# Altium footprint library BGA_Sq_127P.PcbLib: 89 footprints (part 3 of 20)
Each footprint in its own frame and in the unit in brackets; x right, y up, seen from the top. Pads: shape width x height; smd on the part's side, far side on the other; paste and mask are expansions set on the pad; w line width, h text height; cw(c..) or ccw(c..) is an arc to the next point about the centre after c.
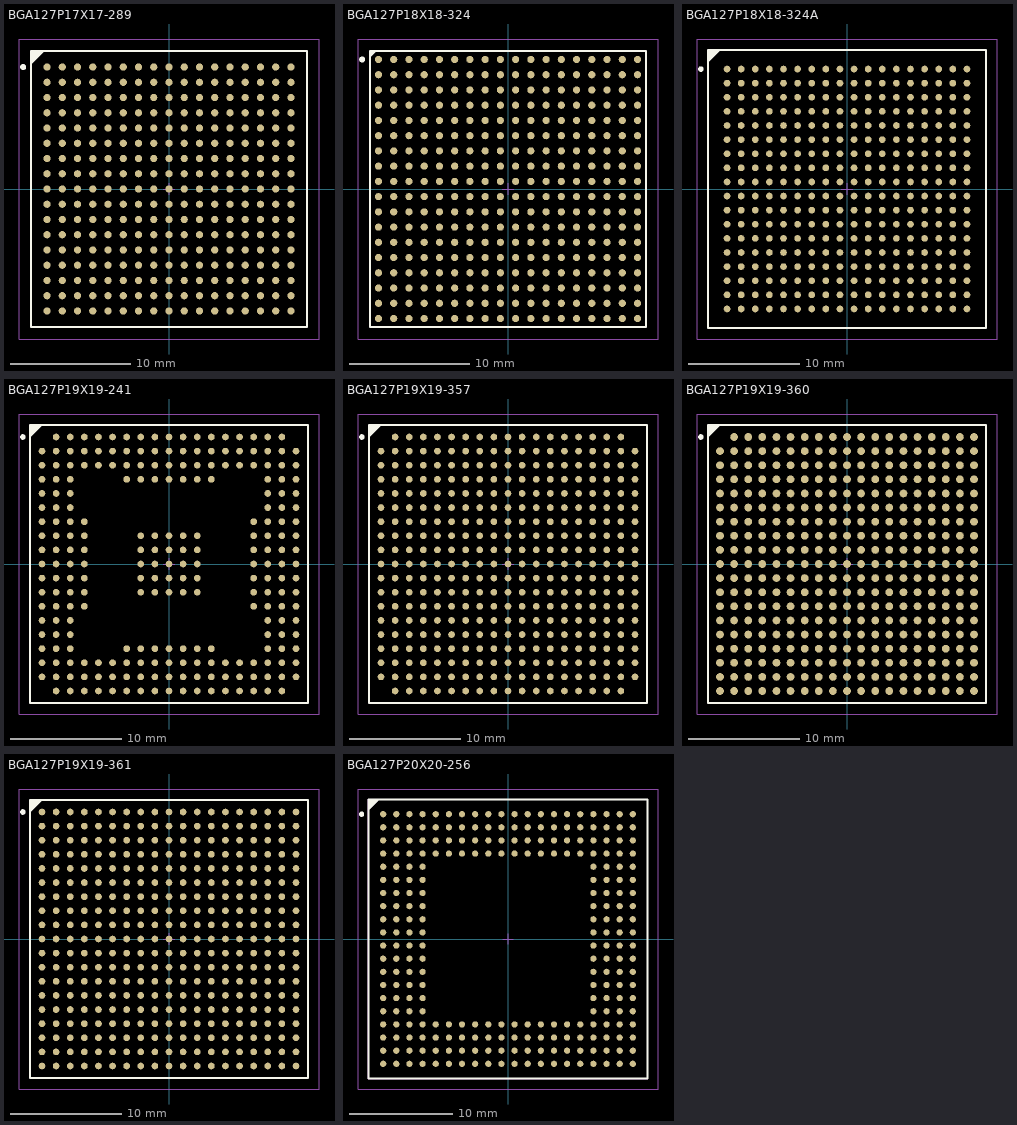
[diagram p2: the footprints below, top view; thin cyan lines are the x and y axes]

## BGA127P17X17-289 [mm] "BGA, 289-Leads, Body 23x23mm, Pitch 1.27mm"
height 3.5
pads (289):
  round 0.6 smd: A1(-10.16,10.16) A2(-8.89,10.16) A3(-7.62,10.16) A4(-6.35,10.16) A5(-5.08,10.16) A6(-3.81,10.16) A7(-2.54,10.16) A8(-1.27,10.16) A9(0,10.16) A10(1.27,10.16) A11(2.54,10.16) A12(3.81,10.16) A13(5.08,10.16) A14(6.35,10.16) A15(7.62,10.16) A16(8.89,10.16) A17(10.16,10.16) B1(-10.16,8.89) B2(-8.89,8.89) B3(-7.62,8.89) B4(-6.35,8.89) B5(-5.08,8.89) B6(-3.81,8.89) B7(-2.54,8.89) B8(-1.27,8.89) B9(0,8.89) B10(1.27,8.89) B11(2.54,8.89) B12(3.81,8.89) B13(5.08,8.89) B14(6.35,8.89) B15(7.62,8.89) B16(8.89,8.89) B17(10.16,8.89) C1(-10.16,7.62) C2(-8.89,7.62) C3(-7.62,7.62) C4(-6.35,7.62) C5(-5.08,7.62) C6(-3.81,7.62) C7(-2.54,7.62) C8(-1.27,7.62) C9(0,7.62) C10(1.27,7.62) C11(2.54,7.62) C12(3.81,7.62) C13(5.08,7.62) C14(6.35,7.62) C15(7.62,7.62) C16(8.89,7.62) C17(10.16,7.62) D1(-10.16,6.35) D2(-8.89,6.35) D3(-7.62,6.35) D4(-6.35,6.35) D5(-5.08,6.35) D6(-3.81,6.35) D7(-2.54,6.35) D8(-1.27,6.35) D9(0,6.35) D10(1.27,6.35) D11(2.54,6.35) D12(3.81,6.35) D13(5.08,6.35) D14(6.35,6.35) D15(7.62,6.35) D16(8.89,6.35) D17(10.16,6.35) E1(-10.16,5.08) E2(-8.89,5.08) E3(-7.62,5.08) E4(-6.35,5.08) E5(-5.08,5.08) E6(-3.81,5.08) E7(-2.54,5.08) E8(-1.27,5.08) E9(0,5.08) E10(1.27,5.08) E11(2.54,5.08) E12(3.81,5.08) E13(5.08,5.08) E14(6.35,5.08) E15(7.62,5.08) E16(8.89,5.08) E17(10.16,5.08) F1(-10.16,3.81) F2(-8.89,3.81) F3(-7.62,3.81) F4(-6.35,3.81) F5(-5.08,3.81) F6(-3.81,3.81) F7(-2.54,3.81) F8(-1.27,3.81) F9(0,3.81) F10(1.27,3.81) F11(2.54,3.81) F12(3.81,3.81) F13(5.08,3.81) F14(6.35,3.81) F15(7.62,3.81) F16(8.89,3.81) F17(10.16,3.81) G1(-10.16,2.54) G2(-8.89,2.54) G3(-7.62,2.54) G4(-6.35,2.54) G5(-5.08,2.54) G6(-3.81,2.54) G7(-2.54,2.54) G8(-1.27,2.54) G9(0,2.54) G10(1.27,2.54) G11(2.54,2.54) G12(3.81,2.54) G13(5.08,2.54) G14(6.35,2.54) G15(7.62,2.54) G16(8.89,2.54) G17(10.16,2.54) H1(-10.16,1.27) H2(-8.89,1.27) H3(-7.62,1.27) H4(-6.35,1.27) H5(-5.08,1.27) H6(-3.81,1.27) H7(-2.54,1.27) H8(-1.27,1.27) H9(0,1.27) H10(1.27,1.27) H11(2.54,1.27) H12(3.81,1.27) H13(5.08,1.27) H14(6.35,1.27) H15(7.62,1.27) H16(8.89,1.27) H17(10.16,1.27) J1(-10.16,0) J2(-8.89,0) J3(-7.62,0) J4(-6.35,0) J5(-5.08,0) J6(-3.81,0) J7(-2.54,0) J8(-1.27,0) J9(0,0) J10(1.27,0) J11(2.54,0) J12(3.81,0) J13(5.08,0) J14(6.35,0) J15(7.62,0) J16(8.89,0) J17(10.16,0) K1(-10.16,-1.27) K2(-8.89,-1.27) K3(-7.62,-1.27) K4(-6.35,-1.27) K5(-5.08,-1.27) K6(-3.81,-1.27) K7(-2.54,-1.27) K8(-1.27,-1.27) K9(0,-1.27) K10(1.27,-1.27) K11(2.54,-1.27) K12(3.81,-1.27) K13(5.08,-1.27) K14(6.35,-1.27) K15(7.62,-1.27) K16(8.89,-1.27) K17(10.16,-1.27) L1(-10.16,-2.54) L2(-8.89,-2.54) L3(-7.62,-2.54) L4(-6.35,-2.54) L5(-5.08,-2.54) L6(-3.81,-2.54) L7(-2.54,-2.54) L8(-1.27,-2.54) L9(0,-2.54) L10(1.27,-2.54) L11(2.54,-2.54) L12(3.81,-2.54) L13(5.08,-2.54) L14(6.35,-2.54) L15(7.62,-2.54) L16(8.89,-2.54) L17(10.16,-2.54) M1(-10.16,-3.81) M2(-8.89,-3.81) M3(-7.62,-3.81) M4(-6.35,-3.81) M5(-5.08,-3.81) M6(-3.81,-3.81) M7(-2.54,-3.81) M8(-1.27,-3.81) M9(0,-3.81) M10(1.27,-3.81) M11(2.54,-3.81) M12(3.81,-3.81) M13(5.08,-3.81) M14(6.35,-3.81) M15(7.62,-3.81) M16(8.89,-3.81) M17(10.16,-3.81) N1(-10.16,-5.08) N2(-8.89,-5.08) N3(-7.62,-5.08) N4(-6.35,-5.08) N5(-5.08,-5.08) N6(-3.81,-5.08) N7(-2.54,-5.08) N8(-1.27,-5.08) N9(0,-5.08) N10(1.27,-5.08) N11(2.54,-5.08) N12(3.81,-5.08) N13(5.08,-5.08) N14(6.35,-5.08) N15(7.62,-5.08) N16(8.89,-5.08) N17(10.16,-5.08) P1(-10.16,-6.35) P2(-8.89,-6.35) P3(-7.62,-6.35) P4(-6.35,-6.35) P5(-5.08,-6.35) P6(-3.81,-6.35) P7(-2.54,-6.35) P8(-1.27,-6.35) P9(0,-6.35) P10(1.27,-6.35) P11(2.54,-6.35) P12(3.81,-6.35) P13(5.08,-6.35) P14(6.35,-6.35) P15(7.62,-6.35) P16(8.89,-6.35) P17(10.16,-6.35) R1(-10.16,-7.62) R2(-8.89,-7.62) R3(-7.62,-7.62) R4(-6.35,-7.62) R5(-5.08,-7.62) R6(-3.81,-7.62) R7(-2.54,-7.62) R8(-1.27,-7.62) R9(0,-7.62) R10(1.27,-7.62) R11(2.54,-7.62) R12(3.81,-7.62) R13(5.08,-7.62) R14(6.35,-7.62) R15(7.62,-7.62) R16(8.89,-7.62) R17(10.16,-7.62) T1(-10.16,-8.89) T2(-8.89,-8.89) T3(-7.62,-8.89) T4(-6.35,-8.89) T5(-5.08,-8.89) T6(-3.81,-8.89) T7(-2.54,-8.89) T8(-1.27,-8.89) T9(0,-8.89) T10(1.27,-8.89) T11(2.54,-8.89) T12(3.81,-8.89) T13(5.08,-8.89) T14(6.35,-8.89) T15(7.62,-8.89) T16(8.89,-8.89) T17(10.16,-8.89) U1(-10.16,-10.16) U2(-8.89,-10.16) U3(-7.62,-10.16) U4(-6.35,-10.16) U5(-5.08,-10.16) U6(-3.81,-10.16) U7(-2.54,-10.16) U8(-1.27,-10.16) U9(0,-10.16) U10(1.27,-10.16) U11(2.54,-10.16) U12(3.81,-10.16) U13(5.08,-10.16) U14(6.35,-10.16) U15(7.62,-10.16) U16(8.89,-10.16) U17(10.16,-10.16)
Top Overlay:
  circle w0.25: c-12.15,10.16 r0.125
  region: -10.5,11.5 -11.5,10.5 -11.5,11.5
  lines w0.2: -11.5,10.5 -10.5,11.5 ; -11.5,-11.5 -11.5,11.5 11.5,11.5 11.5,-11.5 -11.5,-11.5
Mechanical 13:
  lines w0.1: -11.5,-11.5 -11.5,11.5 11.5,11.5 11.5,-11.5 -11.5,-11.5
Mechanical 15:
  lines w0.1: -0.5,0 0.5,0 ; 0,-0.5 0,0.5 ; -12.5,-12.5 -12.5,12.5 12.5,12.5 12.5,-12.5 -12.5,-12.5
3D body: height 3.5, standoff 0, extent -11.5,-11.5 11.5,11.5

## BGA127P18X18-324 [mm] "BGA, 324-Leads, Body 23x23mm, Pitch 1.27mm"
height 3.5
pads (324):
  round 0.6 smd: A1(-10.795,10.795) A2(-9.525,10.795) A3(-8.255,10.795) A4(-6.985,10.795) A5(-5.715,10.795) A6(-4.445,10.795) A7(-3.175,10.795) A8(-1.905,10.795) A9(-0.635,10.795) A10(0.635,10.795) A11(1.905,10.795) A12(3.175,10.795) A13(4.445,10.795) A14(5.715,10.795) A15(6.985,10.795) A16(8.255,10.795) A17(9.525,10.795) A18(10.795,10.795) B1(-10.795,9.525) B2(-9.525,9.525) B3(-8.255,9.525) B4(-6.985,9.525) B5(-5.715,9.525) B6(-4.445,9.525) B7(-3.175,9.525) B8(-1.905,9.525) B9(-0.635,9.525) B10(0.635,9.525) B11(1.905,9.525) B12(3.175,9.525) B13(4.445,9.525) B14(5.715,9.525) B15(6.985,9.525) B16(8.255,9.525) B17(9.525,9.525) B18(10.795,9.525) C1(-10.795,8.255) C2(-9.525,8.255) C3(-8.255,8.255) C4(-6.985,8.255) C5(-5.715,8.255) C6(-4.445,8.255) C7(-3.175,8.255) C8(-1.905,8.255) C9(-0.635,8.255) C10(0.635,8.255) C11(1.905,8.255) C12(3.175,8.255) C13(4.445,8.255) C14(5.715,8.255) C15(6.985,8.255) C16(8.255,8.255) C17(9.525,8.255) C18(10.795,8.255) D1(-10.795,6.985) D2(-9.525,6.985) D3(-8.255,6.985) D4(-6.985,6.985) D5(-5.715,6.985) D6(-4.445,6.985) D7(-3.175,6.985) D8(-1.905,6.985) D9(-0.635,6.985) D10(0.635,6.985) D11(1.905,6.985) D12(3.175,6.985) D13(4.445,6.985) D14(5.715,6.985) D15(6.985,6.985) D16(8.255,6.985) D17(9.525,6.985) D18(10.795,6.985) E1(-10.795,5.715) E2(-9.525,5.715) E3(-8.255,5.715) E4(-6.985,5.715) E5(-5.715,5.715) E6(-4.445,5.715) E7(-3.175,5.715) E8(-1.905,5.715) E9(-0.635,5.715) E10(0.635,5.715) E11(1.905,5.715) E12(3.175,5.715) E13(4.445,5.715) E14(5.715,5.715) E15(6.985,5.715) E16(8.255,5.715) E17(9.525,5.715) E18(10.795,5.715) F1(-10.795,4.445) F2(-9.525,4.445) F3(-8.255,4.445) F4(-6.985,4.445) F5(-5.715,4.445) F6(-4.445,4.445) F7(-3.175,4.445) F8(-1.905,4.445) F9(-0.635,4.445) F10(0.635,4.445) F11(1.905,4.445) F12(3.175,4.445) F13(4.445,4.445) F14(5.715,4.445) F15(6.985,4.445) F16(8.255,4.445) F17(9.525,4.445) F18(10.795,4.445) G1(-10.795,3.175) G2(-9.525,3.175) G3(-8.255,3.175) G4(-6.985,3.175) G5(-5.715,3.175) G6(-4.445,3.175) G7(-3.175,3.175) G8(-1.905,3.175) G9(-0.635,3.175) G10(0.635,3.175) G11(1.905,3.175) G12(3.175,3.175) G13(4.445,3.175) G14(5.715,3.175) G15(6.985,3.175) G16(8.255,3.175) G17(9.525,3.175) G18(10.795,3.175) H1(-10.795,1.905) H2(-9.525,1.905) H3(-8.255,1.905) H4(-6.985,1.905) H5(-5.715,1.905) H6(-4.445,1.905) H7(-3.175,1.905) H8(-1.905,1.905) H9(-0.635,1.905) H10(0.635,1.905) H11(1.905,1.905) H12(3.175,1.905) H13(4.445,1.905) H14(5.715,1.905) H15(6.985,1.905) H16(8.255,1.905) H17(9.525,1.905) H18(10.795,1.905) J1(-10.795,0.635) J2(-9.525,0.635) J3(-8.255,0.635) J4(-6.985,0.635) J5(-5.715,0.635) J6(-4.445,0.635) J7(-3.175,0.635) J8(-1.905,0.635) J9(-0.635,0.635) J10(0.635,0.635) J11(1.905,0.635) J12(3.175,0.635) J13(4.445,0.635) J14(5.715,0.635) J15(6.985,0.635) J16(8.255,0.635) J17(9.525,0.635) J18(10.795,0.635) K1(-10.795,-0.635) K2(-9.525,-0.635) K3(-8.255,-0.635) K4(-6.985,-0.635) K5(-5.715,-0.635) K6(-4.445,-0.635) K7(-3.175,-0.635) K8(-1.905,-0.635) K9(-0.635,-0.635) K10(0.635,-0.635) K11(1.905,-0.635) K12(3.175,-0.635) K13(4.445,-0.635) K14(5.715,-0.635) K15(6.985,-0.635) K16(8.255,-0.635) K17(9.525,-0.635) K18(10.795,-0.635) L1(-10.795,-1.905) L2(-9.525,-1.905) L3(-8.255,-1.905) L4(-6.985,-1.905) L5(-5.715,-1.905) L6(-4.445,-1.905) L7(-3.175,-1.905) L8(-1.905,-1.905) L9(-0.635,-1.905) L10(0.635,-1.905) L11(1.905,-1.905) L12(3.175,-1.905) L13(4.445,-1.905) L14(5.715,-1.905) L15(6.985,-1.905) L16(8.255,-1.905) L17(9.525,-1.905) L18(10.795,-1.905) M1(-10.795,-3.175) M2(-9.525,-3.175) M3(-8.255,-3.175) M4(-6.985,-3.175) M5(-5.715,-3.175) M6(-4.445,-3.175) M7(-3.175,-3.175) M8(-1.905,-3.175) M9(-0.635,-3.175) M10(0.635,-3.175) M11(1.905,-3.175) M12(3.175,-3.175) M13(4.445,-3.175) M14(5.715,-3.175) M15(6.985,-3.175) M16(8.255,-3.175) M17(9.525,-3.175) M18(10.795,-3.175) N1(-10.795,-4.445) N2(-9.525,-4.445) N3(-8.255,-4.445) N4(-6.985,-4.445) N5(-5.715,-4.445) N6(-4.445,-4.445) N7(-3.175,-4.445) N8(-1.905,-4.445) N9(-0.635,-4.445) N10(0.635,-4.445) N11(1.905,-4.445) N12(3.175,-4.445) N13(4.445,-4.445) N14(5.715,-4.445) N15(6.985,-4.445) N16(8.255,-4.445) N17(9.525,-4.445) N18(10.795,-4.445) P1(-10.795,-5.715) P2(-9.525,-5.715) P3(-8.255,-5.715) P4(-6.985,-5.715) P5(-5.715,-5.715) P6(-4.445,-5.715) P7(-3.175,-5.715) P8(-1.905,-5.715) P9(-0.635,-5.715) P10(0.635,-5.715) P11(1.905,-5.715) P12(3.175,-5.715) P13(4.445,-5.715) P14(5.715,-5.715) P15(6.985,-5.715) P16(8.255,-5.715) P17(9.525,-5.715) P18(10.795,-5.715) R1(-10.795,-6.985) R2(-9.525,-6.985) R3(-8.255,-6.985) R4(-6.985,-6.985) R5(-5.715,-6.985) R6(-4.445,-6.985) R7(-3.175,-6.985) R8(-1.905,-6.985) R9(-0.635,-6.985) R10(0.635,-6.985) R11(1.905,-6.985) R12(3.175,-6.985) R13(4.445,-6.985) R14(5.715,-6.985) R15(6.985,-6.985) R16(8.255,-6.985) R17(9.525,-6.985) R18(10.795,-6.985) T1(-10.795,-8.255) T2(-9.525,-8.255) T3(-8.255,-8.255) T4(-6.985,-8.255) T5(-5.715,-8.255) T6(-4.445,-8.255) T7(-3.175,-8.255) T8(-1.905,-8.255) T9(-0.635,-8.255) T10(0.635,-8.255) T11(1.905,-8.255) T12(3.175,-8.255) T13(4.445,-8.255) T14(5.715,-8.255) T15(6.985,-8.255) T16(8.255,-8.255) T17(9.525,-8.255) T18(10.795,-8.255) U1(-10.795,-9.525) U2(-9.525,-9.525) U3(-8.255,-9.525) U4(-6.985,-9.525) U5(-5.715,-9.525) U6(-4.445,-9.525) U7(-3.175,-9.525) U8(-1.905,-9.525) U9(-0.635,-9.525) U10(0.635,-9.525) U11(1.905,-9.525) U12(3.175,-9.525) U13(4.445,-9.525) U14(5.715,-9.525) U15(6.985,-9.525) U16(8.255,-9.525) U17(9.525,-9.525) U18(10.795,-9.525) V1(-10.795,-10.795) V2(-9.525,-10.795) V3(-8.255,-10.795) V4(-6.985,-10.795) V5(-5.715,-10.795) V6(-4.445,-10.795) V7(-3.175,-10.795) V8(-1.905,-10.795) V9(-0.635,-10.795) V10(0.635,-10.795) V11(1.905,-10.795) V12(3.175,-10.795) V13(4.445,-10.795) V14(5.715,-10.795) V15(6.985,-10.795) V16(8.255,-10.795) V17(9.525,-10.795) V18(10.795,-10.795)
Top Overlay:
  circle w0.25: c-12.15,10.795 r0.125
  region: -11.08,11.5 -11.5,11.08 -11.5,11.5
  lines w0.2: -11.5,11.08 -11.08,11.5 ; -11.5,-11.5 -11.5,11.5 11.5,11.5 11.5,-11.5 -11.5,-11.5
Mechanical 13:
  lines w0.1: -11.5,-11.5 -11.5,11.5 11.5,11.5 11.5,-11.5 -11.5,-11.5
Mechanical 15:
  lines w0.1: -0.5,0 0.5,0 ; 0,-0.5 0,0.5 ; -12.5,-12.5 -12.5,12.5 12.5,12.5 12.5,-12.5 -12.5,-12.5
3D body: height 3.5, standoff 0, extent -11.5,-11.5 11.5,11.5

## BGA127P18X18-324A [mm] "BGA, 324-Leads, Body 25x25mm, Pitch 1.27mm"
height 3.5
pads (324):
  round 0.6 smd: A1(-10.795,10.795) A2(-9.525,10.795) A3(-8.255,10.795) A4(-6.985,10.795) A5(-5.715,10.795) A6(-4.445,10.795) A7(-3.175,10.795) A8(-1.905,10.795) A9(-0.635,10.795) A10(0.635,10.795) A11(1.905,10.795) A12(3.175,10.795) A13(4.445,10.795) A14(5.715,10.795) A15(6.985,10.795) A16(8.255,10.795) A17(9.525,10.795) A18(10.795,10.795) B1(-10.795,9.525) B2(-9.525,9.525) B3(-8.255,9.525) B4(-6.985,9.525) B5(-5.715,9.525) B6(-4.445,9.525) B7(-3.175,9.525) B8(-1.905,9.525) B9(-0.635,9.525) B10(0.635,9.525) B11(1.905,9.525) B12(3.175,9.525) B13(4.445,9.525) B14(5.715,9.525) B15(6.985,9.525) B16(8.255,9.525) B17(9.525,9.525) B18(10.795,9.525) C1(-10.795,8.255) C2(-9.525,8.255) C3(-8.255,8.255) C4(-6.985,8.255) C5(-5.715,8.255) C6(-4.445,8.255) C7(-3.175,8.255) C8(-1.905,8.255) C9(-0.635,8.255) C10(0.635,8.255) C11(1.905,8.255) C12(3.175,8.255) C13(4.445,8.255) C14(5.715,8.255) C15(6.985,8.255) C16(8.255,8.255) C17(9.525,8.255) C18(10.795,8.255) D1(-10.795,6.985) D2(-9.525,6.985) D3(-8.255,6.985) D4(-6.985,6.985) D5(-5.715,6.985) D6(-4.445,6.985) D7(-3.175,6.985) D8(-1.905,6.985) D9(-0.635,6.985) D10(0.635,6.985) D11(1.905,6.985) D12(3.175,6.985) D13(4.445,6.985) D14(5.715,6.985) D15(6.985,6.985) D16(8.255,6.985) D17(9.525,6.985) D18(10.795,6.985) E1(-10.795,5.715) E2(-9.525,5.715) E3(-8.255,5.715) E4(-6.985,5.715) E5(-5.715,5.715) E6(-4.445,5.715) E7(-3.175,5.715) E8(-1.905,5.715) E9(-0.635,5.715) E10(0.635,5.715) E11(1.905,5.715) E12(3.175,5.715) E13(4.445,5.715) E14(5.715,5.715) E15(6.985,5.715) E16(8.255,5.715) E17(9.525,5.715) E18(10.795,5.715) F1(-10.795,4.445) F2(-9.525,4.445) F3(-8.255,4.445) F4(-6.985,4.445) F5(-5.715,4.445) F6(-4.445,4.445) F7(-3.175,4.445) F8(-1.905,4.445) F9(-0.635,4.445) F10(0.635,4.445) F11(1.905,4.445) F12(3.175,4.445) F13(4.445,4.445) F14(5.715,4.445) F15(6.985,4.445) F16(8.255,4.445) F17(9.525,4.445) F18(10.795,4.445) G1(-10.795,3.175) G2(-9.525,3.175) G3(-8.255,3.175) G4(-6.985,3.175) G5(-5.715,3.175) G6(-4.445,3.175) G7(-3.175,3.175) G8(-1.905,3.175) G9(-0.635,3.175) G10(0.635,3.175) G11(1.905,3.175) G12(3.175,3.175) G13(4.445,3.175) G14(5.715,3.175) G15(6.985,3.175) G16(8.255,3.175) G17(9.525,3.175) G18(10.795,3.175) H1(-10.795,1.905) H2(-9.525,1.905) H3(-8.255,1.905) H4(-6.985,1.905) H5(-5.715,1.905) H6(-4.445,1.905) H7(-3.175,1.905) H8(-1.905,1.905) H9(-0.635,1.905) H10(0.635,1.905) H11(1.905,1.905) H12(3.175,1.905) H13(4.445,1.905) H14(5.715,1.905) H15(6.985,1.905) H16(8.255,1.905) H17(9.525,1.905) H18(10.795,1.905) J1(-10.795,0.635) J2(-9.525,0.635) J3(-8.255,0.635) J4(-6.985,0.635) J5(-5.715,0.635) J6(-4.445,0.635) J7(-3.175,0.635) J8(-1.905,0.635) J9(-0.635,0.635) J10(0.635,0.635) J11(1.905,0.635) J12(3.175,0.635) J13(4.445,0.635) J14(5.715,0.635) J15(6.985,0.635) J16(8.255,0.635) J17(9.525,0.635) J18(10.795,0.635) K1(-10.795,-0.635) K2(-9.525,-0.635) K3(-8.255,-0.635) K4(-6.985,-0.635) K5(-5.715,-0.635) K6(-4.445,-0.635) K7(-3.175,-0.635) K8(-1.905,-0.635) K9(-0.635,-0.635) K10(0.635,-0.635) K11(1.905,-0.635) K12(3.175,-0.635) K13(4.445,-0.635) K14(5.715,-0.635) K15(6.985,-0.635) K16(8.255,-0.635) K17(9.525,-0.635) K18(10.795,-0.635) L1(-10.795,-1.905) L2(-9.525,-1.905) L3(-8.255,-1.905) L4(-6.985,-1.905) L5(-5.715,-1.905) L6(-4.445,-1.905) L7(-3.175,-1.905) L8(-1.905,-1.905) L9(-0.635,-1.905) L10(0.635,-1.905) L11(1.905,-1.905) L12(3.175,-1.905) L13(4.445,-1.905) L14(5.715,-1.905) L15(6.985,-1.905) L16(8.255,-1.905) L17(9.525,-1.905) L18(10.795,-1.905) M1(-10.795,-3.175) M2(-9.525,-3.175) M3(-8.255,-3.175) M4(-6.985,-3.175) M5(-5.715,-3.175) M6(-4.445,-3.175) M7(-3.175,-3.175) M8(-1.905,-3.175) M9(-0.635,-3.175) M10(0.635,-3.175) M11(1.905,-3.175) M12(3.175,-3.175) M13(4.445,-3.175) M14(5.715,-3.175) M15(6.985,-3.175) M16(8.255,-3.175) M17(9.525,-3.175) M18(10.795,-3.175) N1(-10.795,-4.445) N2(-9.525,-4.445) N3(-8.255,-4.445) N4(-6.985,-4.445) N5(-5.715,-4.445) N6(-4.445,-4.445) N7(-3.175,-4.445) N8(-1.905,-4.445) N9(-0.635,-4.445) N10(0.635,-4.445) N11(1.905,-4.445) N12(3.175,-4.445) N13(4.445,-4.445) N14(5.715,-4.445) N15(6.985,-4.445) N16(8.255,-4.445) N17(9.525,-4.445) N18(10.795,-4.445) P1(-10.795,-5.715) P2(-9.525,-5.715) P3(-8.255,-5.715) P4(-6.985,-5.715) P5(-5.715,-5.715) P6(-4.445,-5.715) P7(-3.175,-5.715) P8(-1.905,-5.715) P9(-0.635,-5.715) P10(0.635,-5.715) P11(1.905,-5.715) P12(3.175,-5.715) P13(4.445,-5.715) P14(5.715,-5.715) P15(6.985,-5.715) P16(8.255,-5.715) P17(9.525,-5.715) P18(10.795,-5.715) R1(-10.795,-6.985) R2(-9.525,-6.985) R3(-8.255,-6.985) R4(-6.985,-6.985) R5(-5.715,-6.985) R6(-4.445,-6.985) R7(-3.175,-6.985) R8(-1.905,-6.985) R9(-0.635,-6.985) R10(0.635,-6.985) R11(1.905,-6.985) R12(3.175,-6.985) R13(4.445,-6.985) R14(5.715,-6.985) R15(6.985,-6.985) R16(8.255,-6.985) R17(9.525,-6.985) R18(10.795,-6.985) T1(-10.795,-8.255) T2(-9.525,-8.255) T3(-8.255,-8.255) T4(-6.985,-8.255) T5(-5.715,-8.255) T6(-4.445,-8.255) T7(-3.175,-8.255) T8(-1.905,-8.255) T9(-0.635,-8.255) T10(0.635,-8.255) T11(1.905,-8.255) T12(3.175,-8.255) T13(4.445,-8.255) T14(5.715,-8.255) T15(6.985,-8.255) T16(8.255,-8.255) T17(9.525,-8.255) T18(10.795,-8.255) U1(-10.795,-9.525) U2(-9.525,-9.525) U3(-8.255,-9.525) U4(-6.985,-9.525) U5(-5.715,-9.525) U6(-4.445,-9.525) U7(-3.175,-9.525) U8(-1.905,-9.525) U9(-0.635,-9.525) U10(0.635,-9.525) U11(1.905,-9.525) U12(3.175,-9.525) U13(4.445,-9.525) U14(5.715,-9.525) U15(6.985,-9.525) U16(8.255,-9.525) U17(9.525,-9.525) U18(10.795,-9.525) V1(-10.795,-10.795) V2(-9.525,-10.795) V3(-8.255,-10.795) V4(-6.985,-10.795) V5(-5.715,-10.795) V6(-4.445,-10.795) V7(-3.175,-10.795) V8(-1.905,-10.795) V9(-0.635,-10.795) V10(0.635,-10.795) V11(1.905,-10.795) V12(3.175,-10.795) V13(4.445,-10.795) V14(5.715,-10.795) V15(6.985,-10.795) V16(8.255,-10.795) V17(9.525,-10.795) V18(10.795,-10.795)
Top Overlay:
  circle w0.25: c-13.15,10.795 r0.125
  region: -11.5,12.5 -12.5,11.5 -12.5,12.5
  lines w0.2: -12.5,11.5 -11.5,12.5 ; -12.5,-12.5 -12.5,12.5 12.5,12.5 12.5,-12.5 -12.5,-12.5
Mechanical 13:
  lines w0.1: -12.5,-12.5 -12.5,12.5 12.5,12.5 12.5,-12.5 -12.5,-12.5
Mechanical 15:
  lines w0.1: -0.5,0 0.5,0 ; 0,-0.5 0,0.5 ; -13.5,-13.5 -13.5,13.5 13.5,13.5 13.5,-13.5 -13.5,-13.5
3D body: height 3.5, standoff 0, extent -12.5,-12.5 12.5,12.5

## BGA127P19X19-241 [mm] "BGA, 241-Leads, Body 25x25mm, Pitch 1.27mm"
height 2.05
pads (241):
  round 0.6 smd: A2(-10.16,11.43) A3(-8.89,11.43) A4(-7.62,11.43) A5(-6.35,11.43) A6(-5.08,11.43) A7(-3.81,11.43) A8(-2.54,11.43) A9(-1.27,11.43) A10(0,11.43) A11(1.27,11.43) A12(2.54,11.43) A13(3.81,11.43) A14(5.08,11.43) A15(6.35,11.43) A16(7.62,11.43) A17(8.89,11.43) A18(10.16,11.43) B1(-11.43,10.16) B2(-10.16,10.16) B3(-8.89,10.16) B4(-7.62,10.16) B5(-6.35,10.16) B6(-5.08,10.16) B7(-3.81,10.16) B8(-2.54,10.16) B9(-1.27,10.16) B10(0,10.16) B11(1.27,10.16) B12(2.54,10.16) B13(3.81,10.16) B14(5.08,10.16) B15(6.35,10.16) B16(7.62,10.16) B17(8.89,10.16) B18(10.16,10.16) B19(11.43,10.16) C1(-11.43,8.89) C2(-10.16,8.89) C3(-8.89,8.89) C4(-7.62,8.89) C5(-6.35,8.89) C6(-5.08,8.89) C7(-3.81,8.89) C8(-2.54,8.89) C9(-1.27,8.89) C10(0,8.89) C11(1.27,8.89) C12(2.54,8.89) C13(3.81,8.89) C14(5.08,8.89) C15(6.35,8.89) C16(7.62,8.89) C17(8.89,8.89) C18(10.16,8.89) C19(11.43,8.89) D1(-11.43,7.62) D2(-10.16,7.62) D3(-8.89,7.62) D7(-3.81,7.62) D8(-2.54,7.62) D9(-1.27,7.62) D10(0,7.62) D11(1.27,7.62) D12(2.54,7.62) D13(3.81,7.62) D17(8.89,7.62) D18(10.16,7.62) D19(11.43,7.62) E1(-11.43,6.35) E2(-10.16,6.35) E3(-8.89,6.35) E17(8.89,6.35) E18(10.16,6.35) E19(11.43,6.35) F1(-11.43,5.08) F2(-10.16,5.08) F3(-8.89,5.08) F17(8.89,5.08) F18(10.16,5.08) F19(11.43,5.08) G1(-11.43,3.81) G2(-10.16,3.81) G3(-8.89,3.81) G4(-7.62,3.81) G16(7.62,3.81) G17(8.89,3.81) G18(10.16,3.81) G19(11.43,3.81) H1(-11.43,2.54) H2(-10.16,2.54) H3(-8.89,2.54) H4(-7.62,2.54) H8(-2.54,2.54) H9(-1.27,2.54) H10(0,2.54) H11(1.27,2.54) H12(2.54,2.54) H16(7.62,2.54) H17(8.89,2.54) H18(10.16,2.54) H19(11.43,2.54) J1(-11.43,1.27) J2(-10.16,1.27) J3(-8.89,1.27) J4(-7.62,1.27) J8(-2.54,1.27) J9(-1.27,1.27) J10(0,1.27) J11(1.27,1.27) J12(2.54,1.27) J16(7.62,1.27) J17(8.89,1.27) J18(10.16,1.27) J19(11.43,1.27) K1(-11.43,0) K2(-10.16,0) K3(-8.89,0) K4(-7.62,0) K8(-2.54,0) K9(-1.27,0) K10(0,0) K11(1.27,0) K12(2.54,0) K16(7.62,0) K17(8.89,0) K18(10.16,0) K19(11.43,0) L1(-11.43,-1.27) L2(-10.16,-1.27) L3(-8.89,-1.27) L4(-7.62,-1.27) L8(-2.54,-1.27) L9(-1.27,-1.27) L10(0,-1.27) L11(1.27,-1.27) L12(2.54,-1.27) L16(7.62,-1.27) L17(8.89,-1.27) L18(10.16,-1.27) L19(11.43,-1.27) M1(-11.43,-2.54) M2(-10.16,-2.54) M3(-8.89,-2.54) M4(-7.62,-2.54) M8(-2.54,-2.54) M9(-1.27,-2.54) M10(0,-2.54) M11(1.27,-2.54) M12(2.54,-2.54) M16(7.62,-2.54) M17(8.89,-2.54) M18(10.16,-2.54) M19(11.43,-2.54) N1(-11.43,-3.81) N2(-10.16,-3.81) N3(-8.89,-3.81) N4(-7.62,-3.81) N16(7.62,-3.81) N17(8.89,-3.81) N18(10.16,-3.81) N19(11.43,-3.81) P1(-11.43,-5.08) P2(-10.16,-5.08) P3(-8.89,-5.08) P17(8.89,-5.08) P18(10.16,-5.08) P19(11.43,-5.08) R1(-11.43,-6.35) R2(-10.16,-6.35) R3(-8.89,-6.35) R17(8.89,-6.35) R18(10.16,-6.35) R19(11.43,-6.35) T1(-11.43,-7.62) T2(-10.16,-7.62) T3(-8.89,-7.62) T7(-3.81,-7.62) T8(-2.54,-7.62) T9(-1.27,-7.62) T10(0,-7.62) T11(1.27,-7.62) T12(2.54,-7.62) T13(3.81,-7.62) T17(8.89,-7.62) T18(10.16,-7.62) T19(11.43,-7.62) U1(-11.43,-8.89) U2(-10.16,-8.89) U3(-8.89,-8.89) U4(-7.62,-8.89) U5(-6.35,-8.89) U6(-5.08,-8.89) U7(-3.81,-8.89) U8(-2.54,-8.89) U9(-1.27,-8.89) U10(0,-8.89) U11(1.27,-8.89) U12(2.54,-8.89) U13(3.81,-8.89) U14(5.08,-8.89) U15(6.35,-8.89) U16(7.62,-8.89) U17(8.89,-8.89) U18(10.16,-8.89) U19(11.43,-8.89) V1(-11.43,-10.16) V2(-10.16,-10.16) V3(-8.89,-10.16) V4(-7.62,-10.16) V5(-6.35,-10.16) V6(-5.08,-10.16) V7(-3.81,-10.16) V8(-2.54,-10.16) V9(-1.27,-10.16) V10(0,-10.16) V11(1.27,-10.16) V12(2.54,-10.16) V13(3.81,-10.16) V14(5.08,-10.16) V15(6.35,-10.16) V16(7.62,-10.16) V17(8.89,-10.16) V18(10.16,-10.16) V19(11.43,-10.16) W2(-10.16,-11.43) W3(-8.89,-11.43) W4(-7.62,-11.43) W5(-6.35,-11.43) W6(-5.08,-11.43) W7(-3.81,-11.43) W8(-2.54,-11.43) W9(-1.27,-11.43) W10(0,-11.43) W11(1.27,-11.43) W12(2.54,-11.43) W13(3.81,-11.43) W14(5.08,-11.43) W15(6.35,-11.43) W16(7.62,-11.43) W17(8.89,-11.43) W18(10.16,-11.43)
Top Overlay:
  circle w0.25: c-13.15,11.43 r0.125
  region: -11.5,12.5 -12.5,11.5 -12.5,12.5
  lines w0.2: -12.5,11.5 -11.5,12.5 ; -12.5,-12.5 -12.5,12.5 12.5,12.5 12.5,-12.5 -12.5,-12.5
Mechanical 13:
  lines w0.1: -12.5,-12.5 -12.5,12.5 12.5,12.5 12.5,-12.5 -12.5,-12.5
Mechanical 15:
  lines w0.1: -0.5,0 0.5,0 ; 0,-0.5 0,0.5 ; -13.5,-13.5 -13.5,13.5 13.5,13.5 13.5,-13.5 -13.5,-13.5
3D body: height 2.05, standoff 0, extent -12.5,-12.5 12.5,12.5

## BGA127P19X19-357 [mm] "BGA, 357-Leads, Body 25x25mm, Pitch 1.27mm"
height 2.05
pads (357):
  round 0.6 smd: A2(-10.16,11.43) A3(-8.89,11.43) A4(-7.62,11.43) A5(-6.35,11.43) A6(-5.08,11.43) A7(-3.81,11.43) A8(-2.54,11.43) A9(-1.27,11.43) A10(0,11.43) A11(1.27,11.43) A12(2.54,11.43) A13(3.81,11.43) A14(5.08,11.43) A15(6.35,11.43) A16(7.62,11.43) A17(8.89,11.43) A18(10.16,11.43) B1(-11.43,10.16) B2(-10.16,10.16) B3(-8.89,10.16) B4(-7.62,10.16) B5(-6.35,10.16) B6(-5.08,10.16) B7(-3.81,10.16) B8(-2.54,10.16) B9(-1.27,10.16) B10(0,10.16) B11(1.27,10.16) B12(2.54,10.16) B13(3.81,10.16) B14(5.08,10.16) B15(6.35,10.16) B16(7.62,10.16) B17(8.89,10.16) B18(10.16,10.16) B19(11.43,10.16) C1(-11.43,8.89) C2(-10.16,8.89) C3(-8.89,8.89) C4(-7.62,8.89) C5(-6.35,8.89) C6(-5.08,8.89) C7(-3.81,8.89) C8(-2.54,8.89) C9(-1.27,8.89) C10(0,8.89) C11(1.27,8.89) C12(2.54,8.89) C13(3.81,8.89) C14(5.08,8.89) C15(6.35,8.89) C16(7.62,8.89) C17(8.89,8.89) C18(10.16,8.89) C19(11.43,8.89) D1(-11.43,7.62) D2(-10.16,7.62) D3(-8.89,7.62) D4(-7.62,7.62) D5(-6.35,7.62) D6(-5.08,7.62) D7(-3.81,7.62) D8(-2.54,7.62) D9(-1.27,7.62) D10(0,7.62) D11(1.27,7.62) D12(2.54,7.62) D13(3.81,7.62) D14(5.08,7.62) D15(6.35,7.62) D16(7.62,7.62) D17(8.89,7.62) D18(10.16,7.62) D19(11.43,7.62) E1(-11.43,6.35) E2(-10.16,6.35) E3(-8.89,6.35) E4(-7.62,6.35) E5(-6.35,6.35) E6(-5.08,6.35) E7(-3.81,6.35) E8(-2.54,6.35) E9(-1.27,6.35) E10(0,6.35) E11(1.27,6.35) E12(2.54,6.35) E13(3.81,6.35) E14(5.08,6.35) E15(6.35,6.35) E16(7.62,6.35) E17(8.89,6.35) E18(10.16,6.35) E19(11.43,6.35) F1(-11.43,5.08) F2(-10.16,5.08) F3(-8.89,5.08) F4(-7.62,5.08) F5(-6.35,5.08) F6(-5.08,5.08) F7(-3.81,5.08) F8(-2.54,5.08) F9(-1.27,5.08) F10(0,5.08) F11(1.27,5.08) F12(2.54,5.08) F13(3.81,5.08) F14(5.08,5.08) F15(6.35,5.08) F16(7.62,5.08) F17(8.89,5.08) F18(10.16,5.08) F19(11.43,5.08) G1(-11.43,3.81) G2(-10.16,3.81) G3(-8.89,3.81) G4(-7.62,3.81) G5(-6.35,3.81) G6(-5.08,3.81) G7(-3.81,3.81) G8(-2.54,3.81) G9(-1.27,3.81) G10(0,3.81) G11(1.27,3.81) G12(2.54,3.81) G13(3.81,3.81) G14(5.08,3.81) G15(6.35,3.81) G16(7.62,3.81) G17(8.89,3.81) G18(10.16,3.81) G19(11.43,3.81) H1(-11.43,2.54) H2(-10.16,2.54) H3(-8.89,2.54) H4(-7.62,2.54) H5(-6.35,2.54) H6(-5.08,2.54) H7(-3.81,2.54) H8(-2.54,2.54) H9(-1.27,2.54) H10(0,2.54) H11(1.27,2.54) H12(2.54,2.54) H13(3.81,2.54) H14(5.08,2.54) H15(6.35,2.54) H16(7.62,2.54) H17(8.89,2.54) H18(10.16,2.54) H19(11.43,2.54) J1(-11.43,1.27) J2(-10.16,1.27) J3(-8.89,1.27) J4(-7.62,1.27) J5(-6.35,1.27) J6(-5.08,1.27) J7(-3.81,1.27) J8(-2.54,1.27) J9(-1.27,1.27) J10(0,1.27) J11(1.27,1.27) J12(2.54,1.27) J13(3.81,1.27) J14(5.08,1.27) J15(6.35,1.27) J16(7.62,1.27) J17(8.89,1.27) J18(10.16,1.27) J19(11.43,1.27) K1(-11.43,0) K2(-10.16,0) K3(-8.89,0) K4(-7.62,0) K5(-6.35,0) K6(-5.08,0) K7(-3.81,0) K8(-2.54,0) K9(-1.27,0) K10(0,0) K11(1.27,0) K12(2.54,0) K13(3.81,0) K14(5.08,0) K15(6.35,0) K16(7.62,0) K17(8.89,0) K18(10.16,0) K19(11.43,0) L1(-11.43,-1.27) L2(-10.16,-1.27) L3(-8.89,-1.27) L4(-7.62,-1.27) L5(-6.35,-1.27) L6(-5.08,-1.27) L7(-3.81,-1.27) L8(-2.54,-1.27) L9(-1.27,-1.27) L10(0,-1.27) L11(1.27,-1.27) L12(2.54,-1.27) L13(3.81,-1.27) L14(5.08,-1.27) L15(6.35,-1.27) L16(7.62,-1.27) L17(8.89,-1.27) L18(10.16,-1.27) L19(11.43,-1.27) M1(-11.43,-2.54) M2(-10.16,-2.54) M3(-8.89,-2.54) M4(-7.62,-2.54) M5(-6.35,-2.54) M6(-5.08,-2.54) M7(-3.81,-2.54) M8(-2.54,-2.54) M9(-1.27,-2.54) M10(0,-2.54) M11(1.27,-2.54) M12(2.54,-2.54) M13(3.81,-2.54) M14(5.08,-2.54) M15(6.35,-2.54) M16(7.62,-2.54) M17(8.89,-2.54) M18(10.16,-2.54) M19(11.43,-2.54) N1(-11.43,-3.81) N2(-10.16,-3.81) N3(-8.89,-3.81) N4(-7.62,-3.81) N5(-6.35,-3.81) N6(-5.08,-3.81) N7(-3.81,-3.81) N8(-2.54,-3.81) N9(-1.27,-3.81) N10(0,-3.81) N11(1.27,-3.81) N12(2.54,-3.81) N13(3.81,-3.81) N14(5.08,-3.81) N15(6.35,-3.81) N16(7.62,-3.81) N17(8.89,-3.81) N18(10.16,-3.81) N19(11.43,-3.81) P1(-11.43,-5.08) P2(-10.16,-5.08) P3(-8.89,-5.08) P4(-7.62,-5.08) P5(-6.35,-5.08) P6(-5.08,-5.08) P7(-3.81,-5.08) P8(-2.54,-5.08) P9(-1.27,-5.08) P10(0,-5.08) P11(1.27,-5.08) P12(2.54,-5.08) P13(3.81,-5.08) P14(5.08,-5.08) P15(6.35,-5.08) P16(7.62,-5.08) P17(8.89,-5.08) P18(10.16,-5.08) P19(11.43,-5.08) R1(-11.43,-6.35) R2(-10.16,-6.35) R3(-8.89,-6.35) R4(-7.62,-6.35) R5(-6.35,-6.35) R6(-5.08,-6.35) R7(-3.81,-6.35) R8(-2.54,-6.35) R9(-1.27,-6.35) R10(0,-6.35) R11(1.27,-6.35) R12(2.54,-6.35) R13(3.81,-6.35) R14(5.08,-6.35) R15(6.35,-6.35) R16(7.62,-6.35) R17(8.89,-6.35) R18(10.16,-6.35) R19(11.43,-6.35) S1(-11.43,-7.62) S2(-10.16,-7.62) S3(-8.89,-7.62) S4(-7.62,-7.62) S5(-6.35,-7.62) S6(-5.08,-7.62) S7(-3.81,-7.62) S8(-2.54,-7.62) S9(-1.27,-7.62) S10(0,-7.62) S11(1.27,-7.62) S12(2.54,-7.62) S13(3.81,-7.62) S14(5.08,-7.62) S15(6.35,-7.62) S16(7.62,-7.62) S17(8.89,-7.62) S18(10.16,-7.62) S19(11.43,-7.62) T1(-11.43,-8.89) T2(-10.16,-8.89) T3(-8.89,-8.89) T4(-7.62,-8.89) T5(-6.35,-8.89) T6(-5.08,-8.89) T7(-3.81,-8.89) T8(-2.54,-8.89) T9(-1.27,-8.89) T10(0,-8.89) T11(1.27,-8.89) T12(2.54,-8.89) T13(3.81,-8.89) T14(5.08,-8.89) T15(6.35,-8.89) T16(7.62,-8.89) T17(8.89,-8.89) T18(10.16,-8.89) T19(11.43,-8.89) U1(-11.43,-10.16) U2(-10.16,-10.16) U3(-8.89,-10.16) U4(-7.62,-10.16) U5(-6.35,-10.16) U6(-5.08,-10.16) U7(-3.81,-10.16) U8(-2.54,-10.16) U9(-1.27,-10.16) U10(0,-10.16) U11(1.27,-10.16) U12(2.54,-10.16) U13(3.81,-10.16) U14(5.08,-10.16) U15(6.35,-10.16) U16(7.62,-10.16) U17(8.89,-10.16) U18(10.16,-10.16) U19(11.43,-10.16) V2(-10.16,-11.43) V3(-8.89,-11.43) V4(-7.62,-11.43) V5(-6.35,-11.43) V6(-5.08,-11.43) V7(-3.81,-11.43) V8(-2.54,-11.43) V9(-1.27,-11.43) V10(0,-11.43) V11(1.27,-11.43) V12(2.54,-11.43) V13(3.81,-11.43) V14(5.08,-11.43) V15(6.35,-11.43) V16(7.62,-11.43) V17(8.89,-11.43) V18(10.16,-11.43)
Top Overlay:
  circle w0.25: c-13.15,11.43 r0.125
  region: -11.5,12.5 -12.5,11.5 -12.5,12.5
  lines w0.2: -12.5,11.5 -11.5,12.5 ; -12.5,-12.5 12.5,-12.5 12.5,12.5 -12.5,12.5 -12.5,-12.5
Mechanical 13:
  lines w0.1: -12.5,-12.5 12.5,-12.5 12.5,12.5 -12.5,12.5 -12.5,-12.5
Mechanical 15:
  lines w0.1: -0.5,0 0.5,0 ; 0,-0.5 0,0.5 ; -13.5,-13.5 13.5,-13.5 13.5,13.5 -13.5,13.5 -13.5,-13.5
3D body: height 2.05, standoff 0, extent -12.5,-12.5 12.5,12.5

## BGA127P19X19-360 [mm] "BGA, 360-Leads, Body 25x25mm, Pitch 1.27mm"
height 3.2
pads (360):
  round 0.7 smd: A2(-10.16,11.43) A3(-8.89,11.43) A4(-7.62,11.43) A5(-6.35,11.43) A6(-5.08,11.43) A7(-3.81,11.43) A8(-2.54,11.43) A9(-1.27,11.43) A10(0,11.43) A11(1.27,11.43) A12(2.54,11.43) A13(3.81,11.43) A14(5.08,11.43) A15(6.35,11.43) A16(7.62,11.43) A17(8.89,11.43) A18(10.16,11.43) A19(11.43,11.43) B1(-11.43,10.16) B2(-10.16,10.16) B3(-8.89,10.16) B4(-7.62,10.16) B5(-6.35,10.16) B6(-5.08,10.16) B7(-3.81,10.16) B8(-2.54,10.16) B9(-1.27,10.16) B10(0,10.16) B11(1.27,10.16) B12(2.54,10.16) B13(3.81,10.16) B14(5.08,10.16) B15(6.35,10.16) B16(7.62,10.16) B17(8.89,10.16) B18(10.16,10.16) B19(11.43,10.16) C1(-11.43,8.89) C2(-10.16,8.89) C3(-8.89,8.89) C4(-7.62,8.89) C5(-6.35,8.89) C6(-5.08,8.89) C7(-3.81,8.89) C8(-2.54,8.89) C9(-1.27,8.89) C10(0,8.89) C11(1.27,8.89) C12(2.54,8.89) C13(3.81,8.89) C14(5.08,8.89) C15(6.35,8.89) C16(7.62,8.89) C17(8.89,8.89) C18(10.16,8.89) C19(11.43,8.89) D1(-11.43,7.62) D2(-10.16,7.62) D3(-8.89,7.62) D4(-7.62,7.62) D5(-6.35,7.62) D6(-5.08,7.62) D7(-3.81,7.62) D8(-2.54,7.62) D9(-1.27,7.62) D10(0,7.62) D11(1.27,7.62) D12(2.54,7.62) D13(3.81,7.62) D14(5.08,7.62) D15(6.35,7.62) D16(7.62,7.62) D17(8.89,7.62) D18(10.16,7.62) D19(11.43,7.62) E1(-11.43,6.35) E2(-10.16,6.35) E3(-8.89,6.35) E4(-7.62,6.35) E5(-6.35,6.35) E6(-5.08,6.35) E7(-3.81,6.35) E8(-2.54,6.35) E9(-1.27,6.35) E10(0,6.35) E11(1.27,6.35) E12(2.54,6.35) E13(3.81,6.35) E14(5.08,6.35) E15(6.35,6.35) E16(7.62,6.35) E17(8.89,6.35) E18(10.16,6.35) E19(11.43,6.35) F1(-11.43,5.08) F2(-10.16,5.08) F3(-8.89,5.08) F4(-7.62,5.08) F5(-6.35,5.08) F6(-5.08,5.08) F7(-3.81,5.08) F8(-2.54,5.08) F9(-1.27,5.08) F10(0,5.08) F11(1.27,5.08) F12(2.54,5.08) F13(3.81,5.08) F14(5.08,5.08) F15(6.35,5.08) F16(7.62,5.08) F17(8.89,5.08) F18(10.16,5.08) F19(11.43,5.08) G1(-11.43,3.81) G2(-10.16,3.81) G3(-8.89,3.81) G4(-7.62,3.81) G5(-6.35,3.81) G6(-5.08,3.81) G7(-3.81,3.81) G8(-2.54,3.81) G9(-1.27,3.81) G10(0,3.81) G11(1.27,3.81) G12(2.54,3.81) G13(3.81,3.81) G14(5.08,3.81) G15(6.35,3.81) G16(7.62,3.81) G17(8.89,3.81) G18(10.16,3.81) G19(11.43,3.81) H1(-11.43,2.54) H2(-10.16,2.54) H3(-8.89,2.54) H4(-7.62,2.54) H5(-6.35,2.54) H6(-5.08,2.54) H7(-3.81,2.54) H8(-2.54,2.54) H9(-1.27,2.54) H10(0,2.54) H11(1.27,2.54) H12(2.54,2.54) H13(3.81,2.54) H14(5.08,2.54) H15(6.35,2.54) H16(7.62,2.54) H17(8.89,2.54) H18(10.16,2.54) H19(11.43,2.54) J1(-11.43,1.27) J2(-10.16,1.27) J3(-8.89,1.27) J4(-7.62,1.27) J5(-6.35,1.27) J6(-5.08,1.27) J7(-3.81,1.27) J8(-2.54,1.27) J9(-1.27,1.27) J10(0,1.27) J11(1.27,1.27) J12(2.54,1.27) J13(3.81,1.27) J14(5.08,1.27) J15(6.35,1.27) J16(7.62,1.27) J17(8.89,1.27) J18(10.16,1.27) J19(11.43,1.27) K1(-11.43,0) K2(-10.16,0) K3(-8.89,0) K4(-7.62,0) K5(-6.35,0) K6(-5.08,0) K7(-3.81,0) K8(-2.54,0) K9(-1.27,0) K10(0,0) K11(1.27,0) K12(2.54,0) K13(3.81,0) K14(5.08,0) K15(6.35,0) K16(7.62,0) K17(8.89,0) K18(10.16,0) K19(11.43,0) L1(-11.43,-1.27) L2(-10.16,-1.27) L3(-8.89,-1.27) L4(-7.62,-1.27) L5(-6.35,-1.27) L6(-5.08,-1.27) L7(-3.81,-1.27) L8(-2.54,-1.27) L9(-1.27,-1.27) L10(0,-1.27) L11(1.27,-1.27) L12(2.54,-1.27) L13(3.81,-1.27) L14(5.08,-1.27) L15(6.35,-1.27) L16(7.62,-1.27) L17(8.89,-1.27) L18(10.16,-1.27) L19(11.43,-1.27) M1(-11.43,-2.54) M2(-10.16,-2.54) M3(-8.89,-2.54) M4(-7.62,-2.54) M5(-6.35,-2.54) M6(-5.08,-2.54) M7(-3.81,-2.54) M8(-2.54,-2.54) M9(-1.27,-2.54) M10(0,-2.54) M11(1.27,-2.54) M12(2.54,-2.54) M13(3.81,-2.54) M14(5.08,-2.54) M15(6.35,-2.54) M16(7.62,-2.54) M17(8.89,-2.54) M18(10.16,-2.54) M19(11.43,-2.54) N1(-11.43,-3.81) N2(-10.16,-3.81) N3(-8.89,-3.81) N4(-7.62,-3.81) N5(-6.35,-3.81) N6(-5.08,-3.81) N7(-3.81,-3.81) N8(-2.54,-3.81) N9(-1.27,-3.81) N10(0,-3.81) N11(1.27,-3.81) N12(2.54,-3.81) N13(3.81,-3.81) N14(5.08,-3.81) N15(6.35,-3.81) N16(7.62,-3.81) N17(8.89,-3.81) N18(10.16,-3.81) N19(11.43,-3.81) P1(-11.43,-5.08) P2(-10.16,-5.08) P3(-8.89,-5.08) P4(-7.62,-5.08) P5(-6.35,-5.08) P6(-5.08,-5.08) P7(-3.81,-5.08) P8(-2.54,-5.08) P9(-1.27,-5.08) P10(0,-5.08) P11(1.27,-5.08) P12(2.54,-5.08) P13(3.81,-5.08) P14(5.08,-5.08) P15(6.35,-5.08) P16(7.62,-5.08) P17(8.89,-5.08) P18(10.16,-5.08) P19(11.43,-5.08) R1(-11.43,-6.35) R2(-10.16,-6.35) R3(-8.89,-6.35) R4(-7.62,-6.35) R5(-6.35,-6.35) R6(-5.08,-6.35) R7(-3.81,-6.35) R8(-2.54,-6.35) R9(-1.27,-6.35) R10(0,-6.35) R11(1.27,-6.35) R12(2.54,-6.35) R13(3.81,-6.35) R14(5.08,-6.35) R15(6.35,-6.35) R16(7.62,-6.35) R17(8.89,-6.35) R18(10.16,-6.35) R19(11.43,-6.35) T1(-11.43,-7.62) T2(-10.16,-7.62) T3(-8.89,-7.62) T4(-7.62,-7.62) T5(-6.35,-7.62) T6(-5.08,-7.62) T7(-3.81,-7.62) T8(-2.54,-7.62) T9(-1.27,-7.62) T10(0,-7.62) T11(1.27,-7.62) T12(2.54,-7.62) T13(3.81,-7.62) T14(5.08,-7.62) T15(6.35,-7.62) T16(7.62,-7.62) T17(8.89,-7.62) T18(10.16,-7.62) T19(11.43,-7.62) U1(-11.43,-8.89) U2(-10.16,-8.89) U3(-8.89,-8.89) U4(-7.62,-8.89) U5(-6.35,-8.89) U6(-5.08,-8.89) U7(-3.81,-8.89) U8(-2.54,-8.89) U9(-1.27,-8.89) U10(0,-8.89) U11(1.27,-8.89) U12(2.54,-8.89) U13(3.81,-8.89) U14(5.08,-8.89) U15(6.35,-8.89) U16(7.62,-8.89) U17(8.89,-8.89) U18(10.16,-8.89) U19(11.43,-8.89) V1(-11.43,-10.16) V2(-10.16,-10.16) V3(-8.89,-10.16) V4(-7.62,-10.16) V5(-6.35,-10.16) V6(-5.08,-10.16) V7(-3.81,-10.16) V8(-2.54,-10.16) V9(-1.27,-10.16) V10(0,-10.16) V11(1.27,-10.16) V12(2.54,-10.16) V13(3.81,-10.16) V14(5.08,-10.16) V15(6.35,-10.16) V16(7.62,-10.16) V17(8.89,-10.16) V18(10.16,-10.16) V19(11.43,-10.16) W1(-11.43,-11.43) W2(-10.16,-11.43) W3(-8.89,-11.43) W4(-7.62,-11.43) W5(-6.35,-11.43) W6(-5.08,-11.43) W7(-3.81,-11.43) W8(-2.54,-11.43) W9(-1.27,-11.43) W10(0,-11.43) W11(1.27,-11.43) W12(2.54,-11.43) W13(3.81,-11.43) W14(5.08,-11.43) W15(6.35,-11.43) W16(7.62,-11.43) W17(8.89,-11.43) W18(10.16,-11.43) W19(11.43,-11.43)
Top Overlay:
  circle w0.25: c-13.15,11.43 r0.125
  region: -11.5,12.5 -12.5,11.5 -12.5,12.5
  lines w0.2: -12.5,11.5 -11.5,12.5 ; -12.5,-12.5 12.5,-12.5 12.5,12.5 -12.5,12.5 -12.5,-12.5
Mechanical 13:
  lines w0.1: -12.5,-12.5 12.5,-12.5 12.5,12.5 -12.5,12.5 -12.5,-12.5
Mechanical 15:
  lines w0.1: -0.5,0 0.5,0 ; 0,-0.5 0,0.5 ; -13.5,-13.5 13.5,-13.5 13.5,13.5 -13.5,13.5 -13.5,-13.5
3D body: height 3.2, standoff 0, extent -12.5,-12.5 12.5,12.5

## BGA127P19X19-361 [mm] "BGA, 361-Leads, Body 25x25mm, Pitch 1.27mm"
height 3.5
pads (361):
  round 0.6 smd: A1(-11.43,11.43) A2(-10.16,11.43) A3(-8.89,11.43) A4(-7.62,11.43) A5(-6.35,11.43) A6(-5.08,11.43) A7(-3.81,11.43) A8(-2.54,11.43) A9(-1.27,11.43) A10(0,11.43) A11(1.27,11.43) A12(2.54,11.43) A13(3.81,11.43) A14(5.08,11.43) A15(6.35,11.43) A16(7.62,11.43) A17(8.89,11.43) A18(10.16,11.43) A19(11.43,11.43) B1(-11.43,10.16) B2(-10.16,10.16) B3(-8.89,10.16) B4(-7.62,10.16) B5(-6.35,10.16) B6(-5.08,10.16) B7(-3.81,10.16) B8(-2.54,10.16) B9(-1.27,10.16) B10(0,10.16) B11(1.27,10.16) B12(2.54,10.16) B13(3.81,10.16) B14(5.08,10.16) B15(6.35,10.16) B16(7.62,10.16) B17(8.89,10.16) B18(10.16,10.16) B19(11.43,10.16) C1(-11.43,8.89) C2(-10.16,8.89) C3(-8.89,8.89) C4(-7.62,8.89) C5(-6.35,8.89) C6(-5.08,8.89) C7(-3.81,8.89) C8(-2.54,8.89) C9(-1.27,8.89) C10(0,8.89) C11(1.27,8.89) C12(2.54,8.89) C13(3.81,8.89) C14(5.08,8.89) C15(6.35,8.89) C16(7.62,8.89) C17(8.89,8.89) C18(10.16,8.89) C19(11.43,8.89) D1(-11.43,7.62) D2(-10.16,7.62) D3(-8.89,7.62) D4(-7.62,7.62) D5(-6.35,7.62) D6(-5.08,7.62) D7(-3.81,7.62) D8(-2.54,7.62) D9(-1.27,7.62) D10(0,7.62) D11(1.27,7.62) D12(2.54,7.62) D13(3.81,7.62) D14(5.08,7.62) D15(6.35,7.62) D16(7.62,7.62) D17(8.89,7.62) D18(10.16,7.62) D19(11.43,7.62) E1(-11.43,6.35) E2(-10.16,6.35) E3(-8.89,6.35) E4(-7.62,6.35) E5(-6.35,6.35) E6(-5.08,6.35) E7(-3.81,6.35) E8(-2.54,6.35) E9(-1.27,6.35) E10(0,6.35) E11(1.27,6.35) E12(2.54,6.35) E13(3.81,6.35) E14(5.08,6.35) E15(6.35,6.35) E16(7.62,6.35) E17(8.89,6.35) E18(10.16,6.35) E19(11.43,6.35) F1(-11.43,5.08) F2(-10.16,5.08) F3(-8.89,5.08) F4(-7.62,5.08) F5(-6.35,5.08) F6(-5.08,5.08) F7(-3.81,5.08) F8(-2.54,5.08) F9(-1.27,5.08) F10(0,5.08) F11(1.27,5.08) F12(2.54,5.08) F13(3.81,5.08) F14(5.08,5.08) F15(6.35,5.08) F16(7.62,5.08) F17(8.89,5.08) F18(10.16,5.08) F19(11.43,5.08) G1(-11.43,3.81) G2(-10.16,3.81) G3(-8.89,3.81) G4(-7.62,3.81) G5(-6.35,3.81) G6(-5.08,3.81) G7(-3.81,3.81) G8(-2.54,3.81) G9(-1.27,3.81) G10(0,3.81) G11(1.27,3.81) G12(2.54,3.81) G13(3.81,3.81) G14(5.08,3.81) G15(6.35,3.81) G16(7.62,3.81) G17(8.89,3.81) G18(10.16,3.81) G19(11.43,3.81) H1(-11.43,2.54) H2(-10.16,2.54) H3(-8.89,2.54) H4(-7.62,2.54) H5(-6.35,2.54) H6(-5.08,2.54) H7(-3.81,2.54) H8(-2.54,2.54) H9(-1.27,2.54) H10(0,2.54) H11(1.27,2.54) H12(2.54,2.54) H13(3.81,2.54) H14(5.08,2.54) H15(6.35,2.54) H16(7.62,2.54) H17(8.89,2.54) H18(10.16,2.54) H19(11.43,2.54) J1(-11.43,1.27) J2(-10.16,1.27) J3(-8.89,1.27) J4(-7.62,1.27) J5(-6.35,1.27) J6(-5.08,1.27) J7(-3.81,1.27) J8(-2.54,1.27) J9(-1.27,1.27) J10(0,1.27) J11(1.27,1.27) J12(2.54,1.27) J13(3.81,1.27) J14(5.08,1.27) J15(6.35,1.27) J16(7.62,1.27) J17(8.89,1.27) J18(10.16,1.27) J19(11.43,1.27) K1(-11.43,0) K2(-10.16,0) K3(-8.89,0) K4(-7.62,0) K5(-6.35,0) K6(-5.08,0) K7(-3.81,0) K8(-2.54,0) K9(-1.27,0) K10(0,0) K11(1.27,0) K12(2.54,0) K13(3.81,0) K14(5.08,0) K15(6.35,0) K16(7.62,0) K17(8.89,0) K18(10.16,0) K19(11.43,0) L1(-11.43,-1.27) L2(-10.16,-1.27) L3(-8.89,-1.27) L4(-7.62,-1.27) L5(-6.35,-1.27) L6(-5.08,-1.27) L7(-3.81,-1.27) L8(-2.54,-1.27) L9(-1.27,-1.27) L10(0,-1.27) L11(1.27,-1.27) L12(2.54,-1.27) L13(3.81,-1.27) L14(5.08,-1.27) L15(6.35,-1.27) L16(7.62,-1.27) L17(8.89,-1.27) L18(10.16,-1.27) L19(11.43,-1.27) M1(-11.43,-2.54) M2(-10.16,-2.54) M3(-8.89,-2.54) M4(-7.62,-2.54) M5(-6.35,-2.54) M6(-5.08,-2.54) M7(-3.81,-2.54) M8(-2.54,-2.54) M9(-1.27,-2.54) M10(0,-2.54) M11(1.27,-2.54) M12(2.54,-2.54) M13(3.81,-2.54) M14(5.08,-2.54) M15(6.35,-2.54) M16(7.62,-2.54) M17(8.89,-2.54) M18(10.16,-2.54) M19(11.43,-2.54) N1(-11.43,-3.81) N2(-10.16,-3.81) N3(-8.89,-3.81) N4(-7.62,-3.81) N5(-6.35,-3.81) N6(-5.08,-3.81) N7(-3.81,-3.81) N8(-2.54,-3.81) N9(-1.27,-3.81) N10(0,-3.81) N11(1.27,-3.81) N12(2.54,-3.81) N13(3.81,-3.81) N14(5.08,-3.81) N15(6.35,-3.81) N16(7.62,-3.81) N17(8.89,-3.81) N18(10.16,-3.81) N19(11.43,-3.81) P1(-11.43,-5.08) P2(-10.16,-5.08) P3(-8.89,-5.08) P4(-7.62,-5.08) P5(-6.35,-5.08) P6(-5.08,-5.08) P7(-3.81,-5.08) P8(-2.54,-5.08) P9(-1.27,-5.08) P10(0,-5.08) P11(1.27,-5.08) P12(2.54,-5.08) P13(3.81,-5.08) P14(5.08,-5.08) P15(6.35,-5.08) P16(7.62,-5.08) P17(8.89,-5.08) P18(10.16,-5.08) P19(11.43,-5.08) R1(-11.43,-6.35) R2(-10.16,-6.35) R3(-8.89,-6.35) R4(-7.62,-6.35) R5(-6.35,-6.35) R6(-5.08,-6.35) R7(-3.81,-6.35) R8(-2.54,-6.35) R9(-1.27,-6.35) R10(0,-6.35) R11(1.27,-6.35) R12(2.54,-6.35) R13(3.81,-6.35) R14(5.08,-6.35) R15(6.35,-6.35) R16(7.62,-6.35) R17(8.89,-6.35) R18(10.16,-6.35) R19(11.43,-6.35) T1(-11.43,-7.62) T2(-10.16,-7.62) T3(-8.89,-7.62) T4(-7.62,-7.62) T5(-6.35,-7.62) T6(-5.08,-7.62) T7(-3.81,-7.62) T8(-2.54,-7.62) T9(-1.27,-7.62) T10(0,-7.62) T11(1.27,-7.62) T12(2.54,-7.62) T13(3.81,-7.62) T14(5.08,-7.62) T15(6.35,-7.62) T16(7.62,-7.62) T17(8.89,-7.62) T18(10.16,-7.62) T19(11.43,-7.62) U1(-11.43,-8.89) U2(-10.16,-8.89) U3(-8.89,-8.89) U4(-7.62,-8.89) U5(-6.35,-8.89) U6(-5.08,-8.89) U7(-3.81,-8.89) U8(-2.54,-8.89) U9(-1.27,-8.89) U10(0,-8.89) U11(1.27,-8.89) U12(2.54,-8.89) U13(3.81,-8.89) U14(5.08,-8.89) U15(6.35,-8.89) U16(7.62,-8.89) U17(8.89,-8.89) U18(10.16,-8.89) U19(11.43,-8.89) V1(-11.43,-10.16) V2(-10.16,-10.16) V3(-8.89,-10.16) V4(-7.62,-10.16) V5(-6.35,-10.16) V6(-5.08,-10.16) V7(-3.81,-10.16) V8(-2.54,-10.16) V9(-1.27,-10.16) V10(0,-10.16) V11(1.27,-10.16) V12(2.54,-10.16) V13(3.81,-10.16) V14(5.08,-10.16) V15(6.35,-10.16) V16(7.62,-10.16) V17(8.89,-10.16) V18(10.16,-10.16) V19(11.43,-10.16) W1(-11.43,-11.43) W2(-10.16,-11.43) W3(-8.89,-11.43) W4(-7.62,-11.43) W5(-6.35,-11.43) W6(-5.08,-11.43) W7(-3.81,-11.43) W8(-2.54,-11.43) W9(-1.27,-11.43) W10(0,-11.43) W11(1.27,-11.43) W12(2.54,-11.43) W13(3.81,-11.43) W14(5.08,-11.43) W15(6.35,-11.43) W16(7.62,-11.43) W17(8.89,-11.43) W18(10.16,-11.43) W19(11.43,-11.43)
Top Overlay:
  circle w0.25: c-13.15,11.43 r0.125
  region: -11.5,12.5 -12.5,11.5 -12.5,12.5
  lines w0.2: -12.5,11.5 -11.5,12.5 ; -12.5,-12.5 -12.5,12.5 12.5,12.5 12.5,-12.5 -12.5,-12.5
Mechanical 13:
  lines w0.1: -12.5,-12.5 -12.5,12.5 12.5,12.5 12.5,-12.5 -12.5,-12.5
Mechanical 15:
  lines w0.1: -0.5,0 0.5,0 ; 0,-0.5 0,0.5 ; -13.5,-13.5 -13.5,13.5 13.5,13.5 13.5,-13.5 -13.5,-13.5
3D body: height 3.5, standoff 0, extent -12.5,-12.5 12.5,12.5

## BGA127P20X20-256 [mm] "BGA, 256-Leads, Body 27x27mm, Pitch 1.27mm"
height 2.6
pads (256):
  round 0.6 smd: A1(-12.065,12.065) A2(-10.795,12.065) A3(-9.525,12.065) A4(-8.255,12.065) A5(-6.985,12.065) A6(-5.715,12.065) A7(-4.445,12.065) A8(-3.175,12.065) A9(-1.905,12.065) A10(-0.635,12.065) A11(0.635,12.065) A12(1.905,12.065) A13(3.175,12.065) A14(4.445,12.065) A15(5.715,12.065) A16(6.985,12.065) A17(8.255,12.065) A18(9.525,12.065) A19(10.795,12.065) A20(12.065,12.065) B1(-12.065,10.795) B2(-10.795,10.795) B3(-9.525,10.795) B4(-8.255,10.795) B5(-6.985,10.795) B6(-5.715,10.795) B7(-4.445,10.795) B8(-3.175,10.795) B9(-1.905,10.795) B10(-0.635,10.795) B11(0.635,10.795) B12(1.905,10.795) B13(3.175,10.795) B14(4.445,10.795) B15(5.715,10.795) B16(6.985,10.795) B17(8.255,10.795) B18(9.525,10.795) B19(10.795,10.795) B20(12.065,10.795) C1(-12.065,9.525) C2(-10.795,9.525) C3(-9.525,9.525) C4(-8.255,9.525) C5(-6.985,9.525) C6(-5.715,9.525) C7(-4.445,9.525) C8(-3.175,9.525) C9(-1.905,9.525) C10(-0.635,9.525) C11(0.635,9.525) C12(1.905,9.525) C13(3.175,9.525) C14(4.445,9.525) C15(5.715,9.525) C16(6.985,9.525) C17(8.255,9.525) C18(9.525,9.525) C19(10.795,9.525) C20(12.065,9.525) D1(-12.065,8.255) D2(-10.795,8.255) D3(-9.525,8.255) D4(-8.255,8.255) D5(-6.985,8.255) D6(-5.715,8.255) D7(-4.445,8.255) D8(-3.175,8.255) D9(-1.905,8.255) D10(-0.635,8.255) D11(0.635,8.255) D12(1.905,8.255) D13(3.175,8.255) D14(4.445,8.255) D15(5.715,8.255) D16(6.985,8.255) D17(8.255,8.255) D18(9.525,8.255) D19(10.795,8.255) D20(12.065,8.255) E1(-12.065,6.985) E2(-10.795,6.985) E3(-9.525,6.985) E4(-8.255,6.985) E17(8.255,6.985) E18(9.525,6.985) E19(10.795,6.985) E20(12.065,6.985) F1(-12.065,5.715) F2(-10.795,5.715) F3(-9.525,5.715) F4(-8.255,5.715) F17(8.255,5.715) F18(9.525,5.715) F19(10.795,5.715) F20(12.065,5.715) G1(-12.065,4.445) G2(-10.795,4.445) G3(-9.525,4.445) G4(-8.255,4.445) G17(8.255,4.445) G18(9.525,4.445) G19(10.795,4.445) G20(12.065,4.445) H1(-12.065,3.175) H2(-10.795,3.175) H3(-9.525,3.175) H4(-8.255,3.175) H17(8.255,3.175) H18(9.525,3.175) H19(10.795,3.175) H20(12.065,3.175) J1(-12.065,1.905) J2(-10.795,1.905) J3(-9.525,1.905) J4(-8.255,1.905) J17(8.255,1.905) J18(9.525,1.905) J19(10.795,1.905) J20(12.065,1.905) K1(-12.065,0.635) K2(-10.795,0.635) K3(-9.525,0.635) K4(-8.255,0.635) K17(8.255,0.635) K18(9.525,0.635) K19(10.795,0.635) K20(12.065,0.635) L1(-12.065,-0.635) L2(-10.795,-0.635) L3(-9.525,-0.635) L4(-8.255,-0.635) L17(8.255,-0.635) L18(9.525,-0.635) L19(10.795,-0.635) L20(12.065,-0.635) M1(-12.065,-1.905) M2(-10.795,-1.905) M3(-9.525,-1.905) M4(-8.255,-1.905) M17(8.255,-1.905) M18(9.525,-1.905) M19(10.795,-1.905) M20(12.065,-1.905) N1(-12.065,-3.175) N2(-10.795,-3.175) N3(-9.525,-3.175) N4(-8.255,-3.175) N17(8.255,-3.175) N18(9.525,-3.175) N19(10.795,-3.175) N20(12.065,-3.175) P1(-12.065,-4.445) P2(-10.795,-4.445) P3(-9.525,-4.445) P4(-8.255,-4.445) P17(8.255,-4.445) P18(9.525,-4.445) P19(10.795,-4.445) P20(12.065,-4.445) R1(-12.065,-5.715) R2(-10.795,-5.715) R3(-9.525,-5.715) R4(-8.255,-5.715) R17(8.255,-5.715) R18(9.525,-5.715) R19(10.795,-5.715) R20(12.065,-5.715) T1(-12.065,-6.985) T2(-10.795,-6.985) T3(-9.525,-6.985) T4(-8.255,-6.985) T17(8.255,-6.985) T18(9.525,-6.985) T19(10.795,-6.985) T20(12.065,-6.985) U1(-12.065,-8.255) U2(-10.795,-8.255) U3(-9.525,-8.255) U4(-8.255,-8.255) U5(-6.985,-8.255) U6(-5.715,-8.255) U7(-4.445,-8.255) U8(-3.175,-8.255) U9(-1.905,-8.255) U10(-0.635,-8.255) U11(0.635,-8.255) U12(1.905,-8.255) U13(3.175,-8.255) U14(4.445,-8.255) U15(5.715,-8.255) U16(6.985,-8.255) U17(8.255,-8.255) U18(9.525,-8.255) U19(10.795,-8.255) U20(12.065,-8.255) V1(-12.065,-9.525) V2(-10.795,-9.525) V3(-9.525,-9.525) V4(-8.255,-9.525) V5(-6.985,-9.525) V6(-5.715,-9.525) V7(-4.445,-9.525) V8(-3.175,-9.525) V9(-1.905,-9.525) V10(-0.635,-9.525) V11(0.635,-9.525) V12(1.905,-9.525) V13(3.175,-9.525) V14(4.445,-9.525) V15(5.715,-9.525) V16(6.985,-9.525) V17(8.255,-9.525) V18(9.525,-9.525) V19(10.795,-9.525) V20(12.065,-9.525) W1(-12.065,-10.795) W2(-10.795,-10.795) W3(-9.525,-10.795) W4(-8.255,-10.795) W5(-6.985,-10.795) W6(-5.715,-10.795) W7(-4.445,-10.795) W8(-3.175,-10.795) W9(-1.905,-10.795) W10(-0.635,-10.795) W11(0.635,-10.795) W12(1.905,-10.795) W13(3.175,-10.795) W14(4.445,-10.795) W15(5.715,-10.795) W16(6.985,-10.795) W17(8.255,-10.795) W18(9.525,-10.795) W19(10.795,-10.795) W20(12.065,-10.795) Y1(-12.065,-12.065) Y2(-10.795,-12.065) Y3(-9.525,-12.065) Y4(-8.255,-12.065) Y5(-6.985,-12.065) Y6(-5.715,-12.065) Y7(-4.445,-12.065) Y8(-3.175,-12.065) Y9(-1.905,-12.065) Y10(-0.635,-12.065) Y11(0.635,-12.065) Y12(1.905,-12.065) Y13(3.175,-12.065) Y14(4.445,-12.065) Y15(5.715,-12.065) Y16(6.985,-12.065) Y17(8.255,-12.065) Y18(9.525,-12.065) Y19(10.795,-12.065) Y20(12.065,-12.065)
Top Overlay:
  circle w0.25: c-14.15,12.065 r0.125
  region: -12.5,13.5 -13.5,12.5 -13.5,13.5
  lines w0.2: -13.5,12.5 -12.5,13.5 ; -13.5,-13.5 13.5,-13.5 13.5,13.5 -13.5,13.5 -13.5,-13.5
Mechanical 13:
  lines w0.1: -13.5,-13.5 13.5,-13.5 13.5,13.5 -13.5,13.5 -13.5,-13.5
Mechanical 15:
  lines w0.1: -0.5,0 0.5,0 ; 0,-0.5 0,0.5 ; -14.5,-14.5 14.5,-14.5 14.5,14.5 -14.5,14.5 -14.5,-14.5
3D body: height 2.6, standoff 0, extent -13.5,-13.5 13.5,13.5